# Altium integrated library Integrated_Library1.IntLib: 4 symbols
Pins are listed as number, name and electrical type; pins without a type are passive.

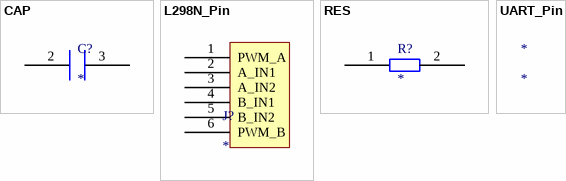
[diagram p0: symbols CAP to UART_Pin]

## CAP
designator C?
pins: 2, 3

## L298N_Pin
designator J?
footprint L298n-6P
pins: 1 PWM_A, 2 A_IN1, 3 A_IN2, 4 B_IN1, 5 B_IN2, 6 PWM_B

## RES
designator R?
Resistor
pins: 1, 2

## UART_Pin
designator *